# Altium integrated library LM2576BT.IntLib: 1 symbol
Pins are listed as number, name and electrical type; pins without a type are passive.

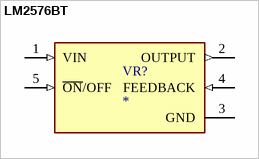
[diagram p0: symbol LM2576BT]

## LM2576BT
designator VR?
Buck Switching Regulator IC Positive or Negative Adjustable 1.23V 1 Output 3A TO-220-5; MF: Micrel; MP: LM2576BT; SnapEDA_Link: https://www.snapeda.com/parts/LM2576BT/Micrel/view-part/?ref=snap; Package: TO-220-5 Micrel; Value: *; Check_prices: https://www.snapeda.com/parts/LM2576BT/Micrel/view-part/?ref=eda
footprint TO170P1054X470X1514-5
pins: 1 VIN (in), 2 OUTPUT (out), 3 GND (power), 4 FEEDBACK (in), 5 ~{ON}/OFF (in)